# Altium footprint library RESC2012X75L55N.PcbLib: 1 footprints
Each footprint in its own frame and in the unit in brackets; x right, y up, seen from the top. Pads: shape width x height; smd on the part's side, far side on the other; paste and mask are expansions set on the pad; w line width, h text height; cw(c..) or ccw(c..) is an arc to the next point about the centre after c.
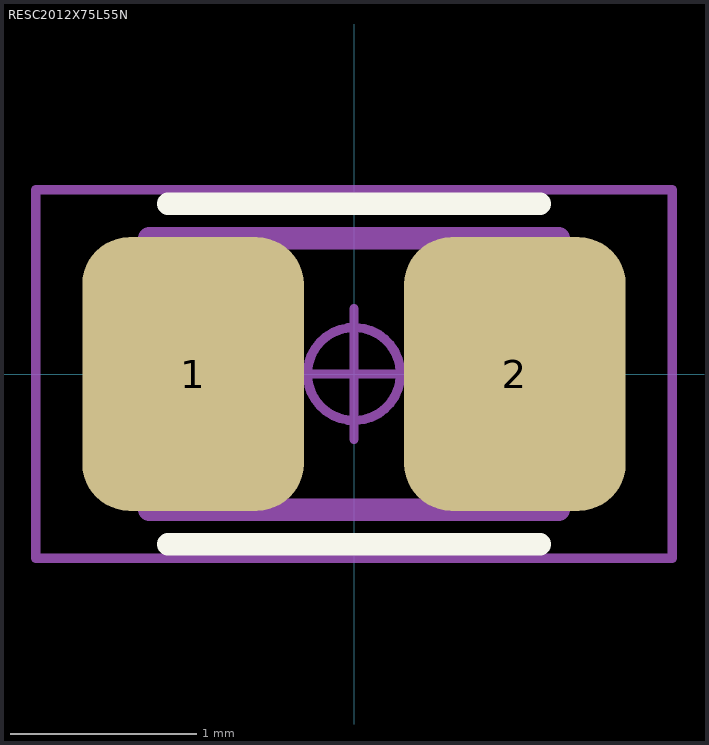
[diagram p0: the footprint, top view; thin cyan lines are the x and y axes]

## RESC2012X75L55N [mm] "Resistor, Chip; 2.00 mm L X 1.25 mm W X 0.75 mm H body"
height 0.75
pads (2):
  rrect42% 1.19x1.47 smd: 1(-0.865,0) 2(0.865,0)
Top Overlay:
  lines w0.12: -1,-0.915 1,-0.915 ; -1,0.915 1,0.915
Mechanical 11:
  lines w0.12: -1.1,-0.73 -1.1,0.73 1.1,0.73 1.1,-0.73 -1.1,-0.73
Mechanical 15:
  circle w0.05: c0,0 r0.25
  lines w0.05: -0.35,0 0.35,0 ; 0,-0.35 0,0.35 ; -1.71,-0.99 -1.71,0.99 1.71,0.99 1.71,-0.99 -1.71,-0.99
3D body: height 0.6, standoff 0, extent -1,-0.625 1,0.625